# Altium footprint library MPU-9250_Header.PcbLib: 1 footprints
Each footprint in its own frame and in the unit in brackets; x right, y up, seen from the top. Pads: shape width x height; smd on the part's side, far side on the other; paste and mask are expansions set on the pad; w line width, h text height; cw(c..) or ccw(c..) is an arc to the next point about the centre after c.
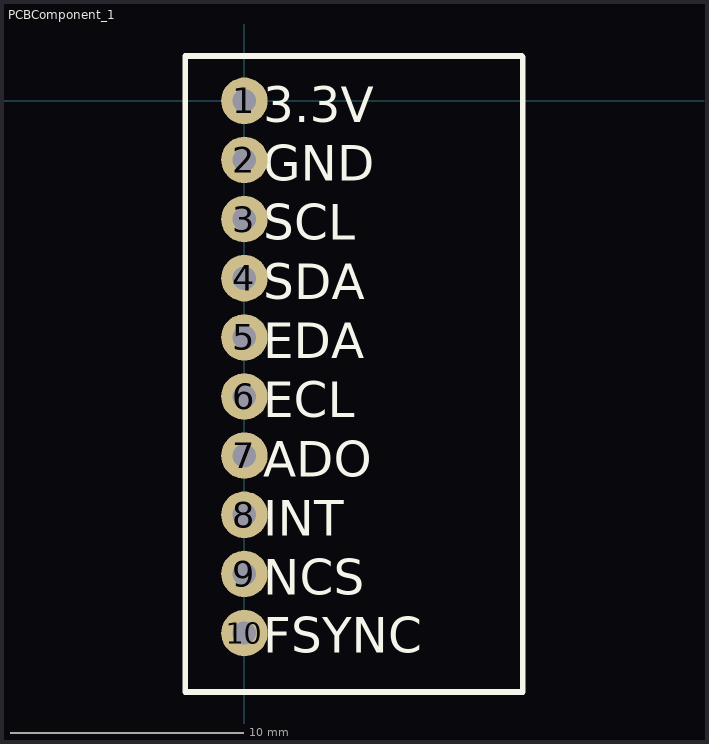
[diagram p0: the footprint, top view; thin cyan lines are the x and y axes]

## PCBComponent_1 [mm]
pads (10):
  round 2 hole 1: 1(0,0) 2(0,-2.54) 3(0,-5.08) 4(0,-7.62) 5(0,-10.16) 6(0,-12.7) 7(0,-15.24) 8(0,-17.78) 9(0,-20.32) 10(0,-22.86)
Top Overlay:
  lines w0.254: 11.913,1.932 -2.54,1.932 -2.54,-25.4 7.627,-25.4 11.958,-25.4 11.958,1.887
  text "NCS" at 0.813,-21.217 h1.52
  text "INT" at 0.813,-18.677 h1.52
  text "ADO" at 0.813,-16.137 h1.52
  text "ECL" at 0.813,-13.597 h1.52
  text "EDA" at 0.813,-11.057 h1.52
  text "SDA" at 0.813,-8.517 h1.52
  text "SCL" at 0.813,-5.977 h1.52
  text "GND" at 0.813,-3.437 h1.52
  text "3.3V" at 0.813,-0.923 h1.52
  text "FSYNC" at 0.813,-23.7 h1.52